# Altium footprint library Coilcraft.PcbLib: 1 footprints
Each footprint in its own frame and in the unit in brackets; x right, y up, seen from the top. Pads: shape width x height; smd on the part's side, far side on the other; paste and mask are expansions set on the pad; w line width, h text height; cw(c..) or ccw(c..) is an arc to the next point about the centre after c.
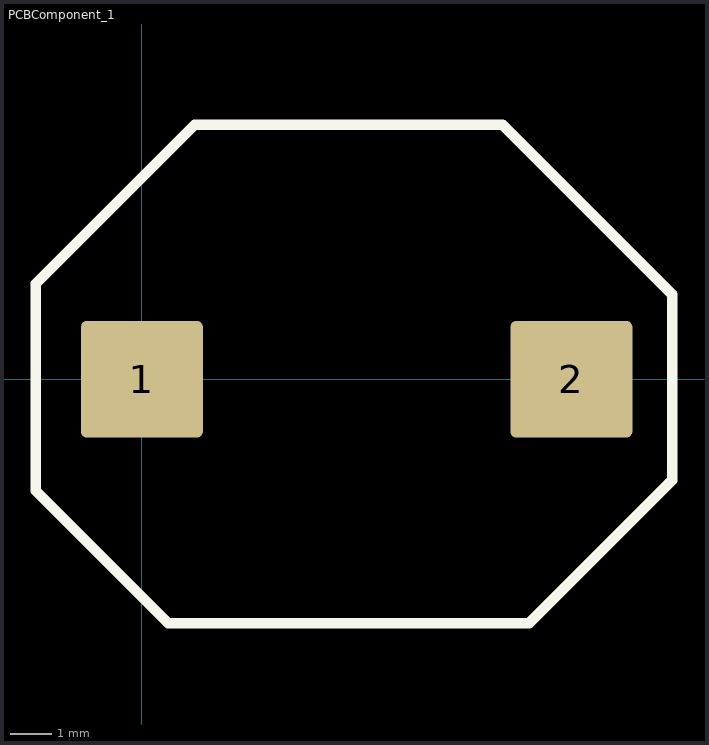
[diagram p0: the footprint, top view; thin cyan lines are the x and y axes]

## PCBComponent_1 [mil]
pads (2):
  rrect10% 115x110 smd: 1(0,0) 2(405,0)
Top Overlay:
  lines w10: -100,-105 25,-230 365,-230 500,-95 500,80 340,240 50,240 -100,90 -100,70 -100,-105